# Altium footprint library Passive.PcbLib: 151 footprints (part 1 of 10)
Each footprint in its own frame and in the unit in brackets; x right, y up, seen from the top. Pads: shape width x height; smd on the part's side, far side on the other; paste and mask are expansions set on the pad; w line width, h text height; cw(c..) or ccw(c..) is an arc to the next point about the centre after c.
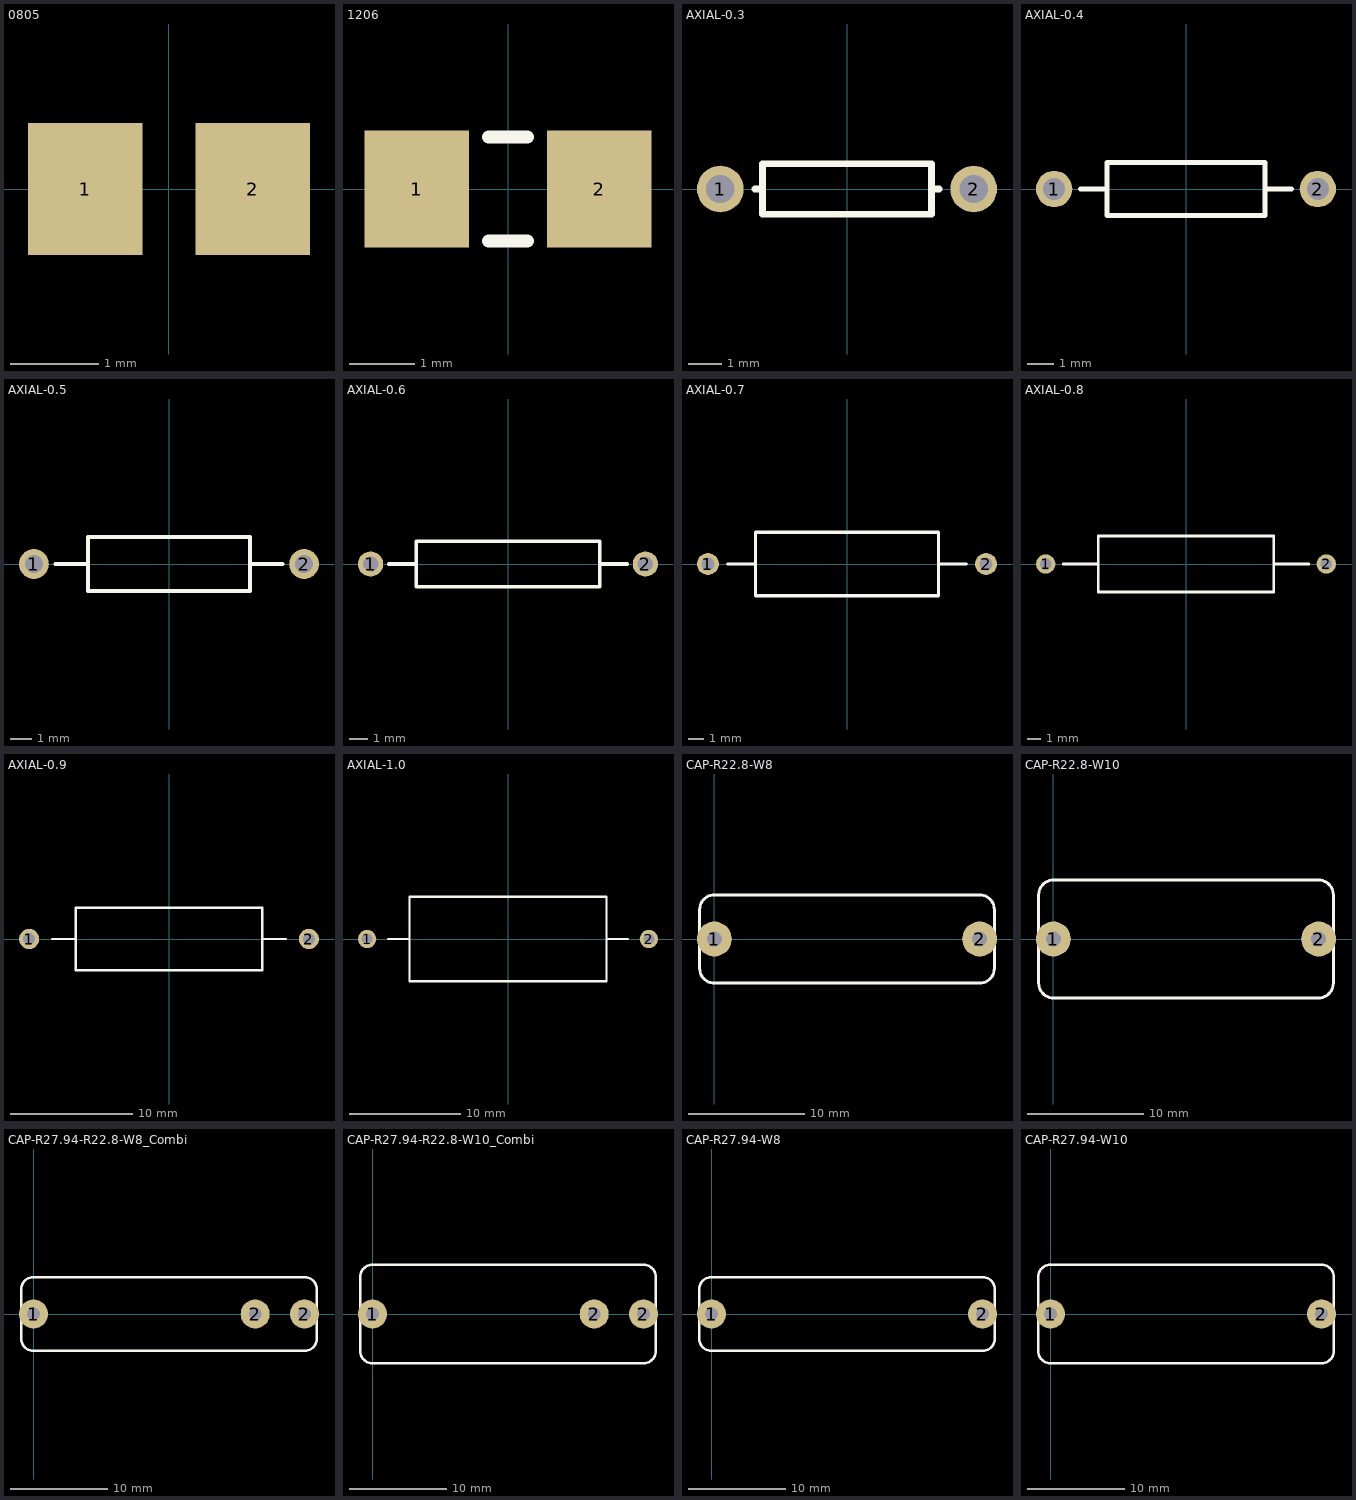
[diagram p0: the footprints below, top view; thin cyan lines are the x and y axes]

## 0805 [mm]
height 2
pads (2):
  rect 1.3x1.5 smd: 1(-0.95,0) 2(0.95,0)

## 1206 [mm]
height 2
pads (2):
  rect 1.6x1.8 smd: 1(-1.4,0) 2(1.4,0)
Top Overlay:
  lines w0.2: -0.3,-0.8 0.3,-0.8 ; -0.3,0.8 0.3,0.8

## AXIAL-0.3 [mm] "Axial Device, Thru-Hole; 2 Leads; 0.3 in Pin Spacing"
height 1.524
pads (2):
  round 1.4 hole 0.85: 1(-3.81,0) 2(3.81,0)
Top Overlay:
  lines w0.2: -2.769,0 -2.54,0 ; 2.769,0 2.54,0 ; 2.54,0 2.54,-0.762 -2.54,-0.762 -2.54,0.762 2.54,0.762 2.54,0

## AXIAL-0.4 [mm] "Axial Device, Thru-Hole; 2 Leads; 0.4 in Pin Spacing"
height 2.032
pads (2):
  round 1.4 hole 0.85: 1(-5.08,0) 2(5.08,0)
Top Overlay:
  lines w0.2: -4.064,0 -3.048,0 ; 3.048,0 4.064,0 ; -3.048,-1.016 -3.048,1.016 3.048,1.016 3.048,-1.016 -3.048,-1.016

## AXIAL-0.5 [mm] "Axial Device, Thru-Hole; 2 Leads; 0.5 in Pin Spacing"
height 2.54
pads (2):
  round 1.4 hole 0.85: 1(-6.35,0) 2(6.35,0)
Top Overlay:
  lines w0.2: -5.334,0 -3.81,0 ; 3.81,0 5.334,0 ; -3.81,-1.27 3.81,-1.27 3.81,1.27 -3.81,1.27 -3.81,-1.27

## AXIAL-0.6 [mm] "Axial Device, Thru-Hole; 2 Leads; 0.6 in Pin Spacing"
height 2.54
pads (2):
  round 1.4 hole 0.85: 1(-7.62,0) 2(7.62,0)
Top Overlay:
  lines w0.2: -6.604,0 -5.08,0 ; 5.08,0 6.604,0 ; -5.08,-1.27 -5.08,1.27 5.08,1.27 5.08,-1.27 -5.08,-1.27

## AXIAL-0.7 [mm] "Axial Device, Thru-Hole; 2 Leads; 0.7 in Pin Spacing"
height 4.064
pads (2):
  round 1.4 hole 0.85: 1(-8.89,0) 2(8.89,0)
Top Overlay:
  lines w0.2: -7.62,0 -5.842,0 ; 5.842,0 7.62,0 ; -5.842,-2.032 5.842,-2.032 5.842,2.032 -5.842,2.032 -5.842,-2.032

## AXIAL-0.8 [mm] "Axial Device, Thru-Hole; 2 Leads; 0.8 in Pin Spacing"
height 4.064
pads (2):
  round 1.4 hole 0.85: 1(-10.16,0) 2(10.16,0)
Top Overlay:
  lines w0.2: -8.89,0 -6.35,0 ; 6.35,0 8.89,0 ; -6.35,-2.032 6.35,-2.032 6.35,2.032 -6.35,2.032 -6.35,-2.032

## AXIAL-0.9 [mm] "Axial Device, Thru-Hole; 2 Leads; 0.9 in Pin Spacing"
height 5.08
pads (2):
  round 1.65 hole 1: 1(-11.43,0) 2(11.43,0)
Top Overlay:
  lines w0.2: -9.525,0 -7.62,0 ; 7.62,0 9.525,0 ; -7.62,-2.54 -7.62,2.54 7.62,2.54 7.62,-2.54 -7.62,-2.54

## AXIAL-1.0 [mm] "Axial Device, Thru-Hole; 2 Leads; 1.0 in Pin Spacing"
height 7.62
pads (2):
  round 1.65 hole 1: 1(-12.7,0) 2(12.7,0)
Top Overlay:
  lines w0.2: -10.795,0 -8.89,0 ; 8.89,0 10.795,0 ; -8.89,-3.81 8.89,-3.81 8.89,3.81 -8.89,3.81 -8.89,-3.81

## CAP-R22.8-W8 [mm] "Capacitor, Film, Radial; Body 8 x 26 x 25 mm (AxBxH typ); Pin Spacing 22.86 mm (typ)"
pads (2):
  round 3 hole 1.3: 1(0,0) 2(22.86,0)
Top Overlay:
  lines w0.254: -1.27,-2.54 ccw(c0,-2.54) 0,-3.81 22.86,-3.81 ccw(c22.86,-2.54) 24.13,-2.54 24.13,2.54 ccw(c22.86,2.54) 22.86,3.81 0,3.81 ccw(c0,2.54) -1.27,2.54 -1.27,-2.54

## CAP-R22.8-W10 [mm] "Capacitor, Film, Radial; Body 10 x 26 x 25 mm (AxBxH typ); Pin Spacing 22.86 mm (typ)"
pads (2):
  round 3 hole 1.3: 1(0,0) 2(22.86,0)
Top Overlay:
  lines w0.254: -1.27,-3.81 ccw(c0,-3.81) 0,-5.08 22.86,-5.08 ccw(c22.86,-3.81) 24.13,-3.81 24.13,3.81 ccw(c22.86,3.81) 22.86,5.08 0,5.08 ccw(c0,3.81) -1.27,3.81 -1.27,-3.81

## CAP-R27.94-R22.8-W8_Combi [mm] "Capacitor, Film, Radial; Body 8 x 30 x 25 mm (AxBxH typ); Pin Spacing 27.94 mm (typ)"
pads (3):
  round 3 hole 1.3: 1(0,0) 2(22.86,0) 2(27.94,0)
Top Overlay:
  lines w0.254: -1.27,-2.54 ccw(c0,-2.54) 0,-3.81 27.94,-3.81 ccw(c27.94,-2.54) 29.21,-2.54 29.21,2.54 ccw(c27.94,2.54) 27.94,3.81 0,3.81 ccw(c0,2.54) -1.27,2.54 -1.27,-2.54

## CAP-R27.94-R22.8-W10_Combi [mm] "Capacitor, Film, Radial; Body 10 x 30 x 25 mm (AxBxH typ); Pin Spacing 27.94 mm (typ)"
pads (3):
  round 3 hole 1.3: 1(0,0) 2(22.86,0) 2(27.94,0)
Top Overlay:
  lines w0.254: -1.27,-3.81 ccw(c0,-3.81) 0,-5.08 27.94,-5.08 ccw(c27.94,-3.81) 29.21,-3.81 29.21,3.81 ccw(c27.94,3.81) 27.94,5.08 0,5.08 ccw(c0,3.81) -1.27,3.81 -1.27,-3.81

## CAP-R27.94-W8 [mm] "Capacitor, Film, Radial; Body 8 x 30 x 25 mm (AxBxH typ); Pin Spacing 27.94 mm (typ)"
pads (2):
  round 3 hole 1.3: 1(0,0) 2(27.94,0)
Top Overlay:
  lines w0.254: -1.27,-2.54 ccw(c0,-2.54) 0,-3.81 27.94,-3.81 ccw(c27.94,-2.54) 29.21,-2.54 29.21,2.54 ccw(c27.94,2.54) 27.94,3.81 0,3.81 ccw(c0,2.54) -1.27,2.54 -1.27,-2.54

## CAP-R27.94-W10 [mm] "Capacitor, Film, Radial; Body 10 x 30 x 25 mm (AxBxH typ); Pin Spacing 27.94 mm (typ)"
pads (2):
  round 3 hole 1.3: 1(0,0) 2(27.94,0)
Top Overlay:
  lines w0.254: -1.27,-3.81 ccw(c0,-3.81) 0,-5.08 27.94,-5.08 ccw(c27.94,-3.81) 29.21,-3.81 29.21,3.81 ccw(c27.94,3.81) 27.94,5.08 0,5.08 ccw(c0,3.81) -1.27,3.81 -1.27,-3.81